# EAGLE library part XMOS_AVB_BRD_V4_ADM1085AKSZ-REEL7_ADM1085AKSZ-REEL7 (library xmos_avb_brd_V4)
Volt Supervisor Sequencer 0V to 22V 6-Pin SC-70 T/R
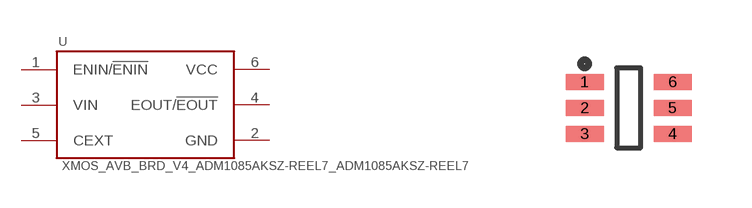
[diagram p2: symbol with the pads of XMOS_AVB_BRD_V4_ADM1085AKSZ-REEL7_SOP65P210X95-6N; footprint XMOS_AVB_BRD_V4_ADM1085AKSZ-REEL7_SOP65P210X95-6N]

Designator prefix U

## XMOS_AVB_BRD_V4_ADM1085AKSZ-REEL7_ADM1085AKSZ-REEL7 (AVAILABILITY: Unavailable; DESCRIPTION: Volt Supervisor Sequencer 0V to 22V 6-Pin SC-70 T/R; MF: Analog Devices; MP: ADM1085AKSZ-REEL7; PACKAGE: SC-70-6 Analog Devices; PRICE: None)  [XMOS_AVB_BRD_V4_ADM1085AKSZ-REEL7_SOP65P210X95-6N]
1  ENIN/!ENIN  in
2  GND  pwr
3  VIN  in
4  EOUT/!EOUT  out
5  CEXT  pas
6  VCC  pwr

## Footprint XMOS_AVB_BRD_V4_ADM1085AKSZ-REEL7_SOP65P210X95-6N (pad centres in mm)
smd 0.95 x 0.4: 1 -1.1,0.65; 2 -1.1,0; 3 -1.1,-0.65; 4 1.1,-0.65; 5 1.1,0; 6 1.1,0.65